# Altium footprint library PcbLib1.PcbLib: 10 footprints
Each footprint in its own frame and in the unit in brackets; x right, y up, seen from the top. Pads: shape width x height; smd on the part's side, far side on the other; paste and mask are expansions set on the pad; w line width, h text height; cw(c..) or ccw(c..) is an arc to the next point about the centre after c.
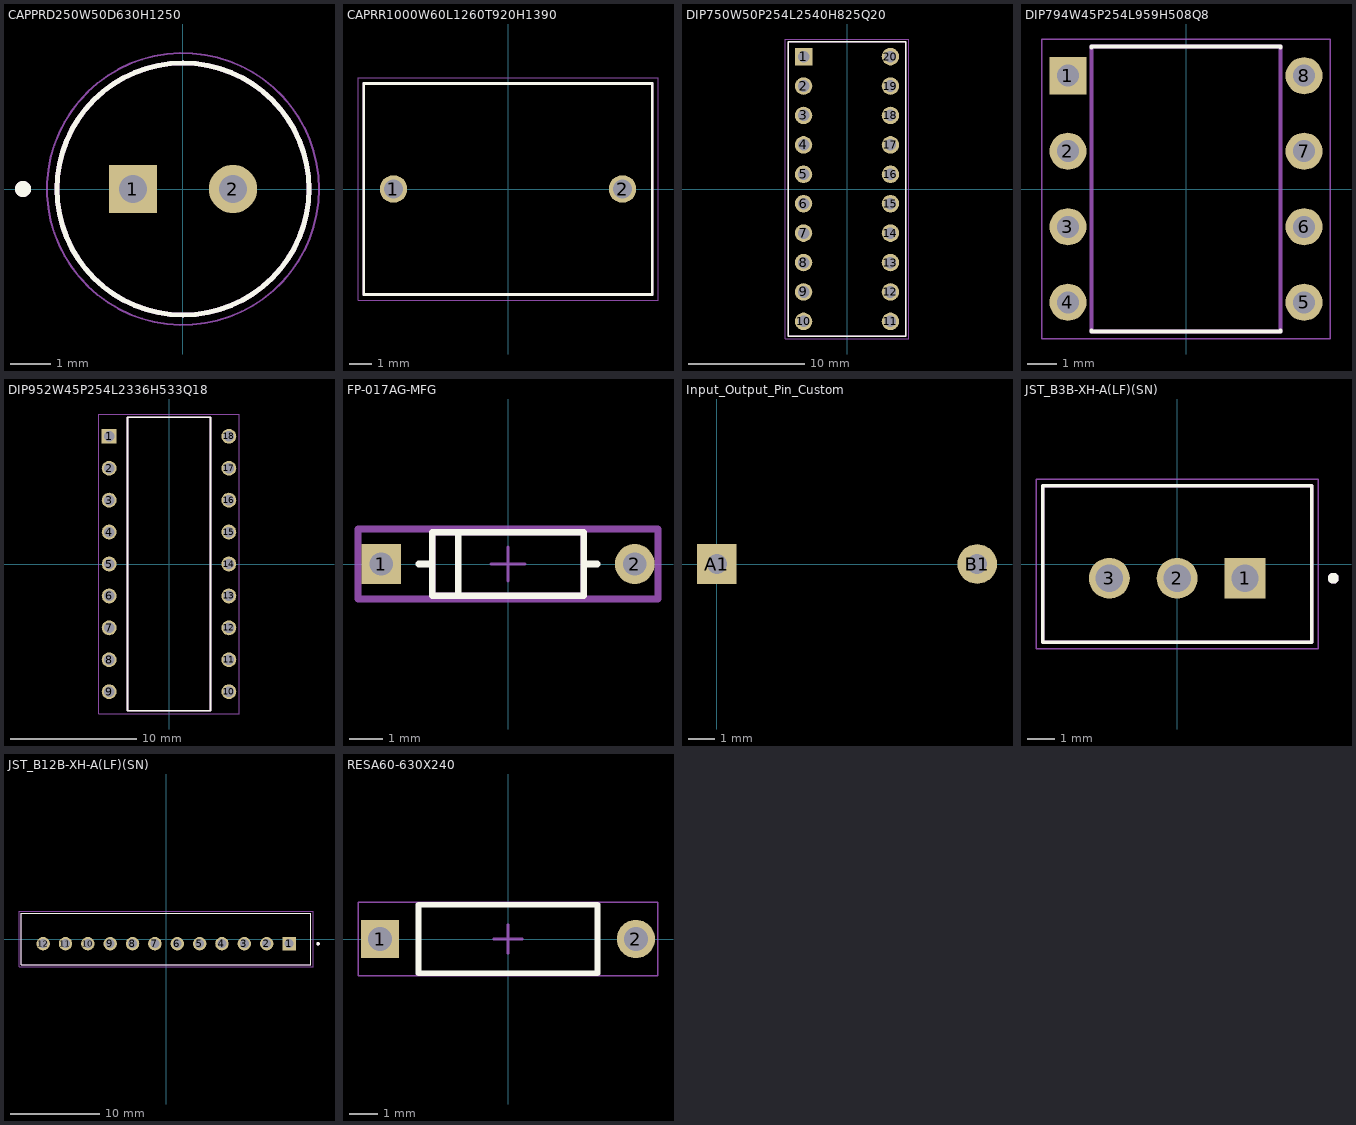
[diagram p0: the footprints below, top view; thin cyan lines are the x and y axes]

## CAPPRD250W50D630H1250 [mm]
pads (2):
  rect 1.208x1.208 / inner round 1.208 / far side rect 1.208x1.208 hole 0.7: 1(-1.25,0)
  round 1.208 hole 0.7: 2(1.25,0)
Top Overlay:
  circle w0.2: c-4,0 r0.1
  circle w0.127: c0,0 r3.15
Top 3D Body:
  circle w0.2: c-4,0 r0.1
  circle w0.127: c0,0 r3.15
Top Courtyard:
  circle w0.05: c0,0 r3.4
3D body "step_temp.STEP": height 12.5, standoff -19, extent -3.15,-3.147 3.15,3.147

## CAPRR1000W60L1260T920H1390 [mm]
pads (2):
  round 1.2 hole 0.85: 1(-5,0) 2(5,0)
Top Overlay:
  lines w0.127: -6.3,-4.6 6.3,-4.6 6.3,4.6 -6.3,4.6 -6.3,-4.6
Top 3D Body:
  lines w0.127: -6.3,-4.6 -6.3,4.6 6.3,4.6 6.3,-4.6 -6.3,-4.6
Top Courtyard:
  lines w0.05: -6.55,-4.85 -6.55,4.85 6.55,4.85 6.55,-4.85 -6.55,-4.85

## DIP750W50P254L2540H825Q20 [mm]
pads (20):
  rect 1.508x1.508 hole 1: 1(-3.75,11.43)
  round 1.508 hole 1: 2(-3.75,8.89) 3(-3.75,6.35) 4(-3.75,3.81) 5(-3.75,1.27) 6(-3.75,-1.27) 7(-3.75,-3.81) 8(-3.75,-6.35) 9(-3.75,-8.89) 10(-3.75,-11.43) 11(3.75,-11.43) 12(3.75,-8.89) 13(3.75,-6.35) 14(3.75,-3.81) 15(3.75,-1.27) 16(3.75,1.27) 17(3.75,3.81) 18(3.75,6.35) 19(3.75,8.89) 20(3.75,11.43)
Top Overlay:
  lines w0.127: -5.08,-12.7 5.08,-12.7 5.08,12.7 -5.08,12.7 -5.08,-12.7
Top 3D Body:
  lines w0.127: -5.08,-12.7 5.08,-12.7 5.08,12.7 -5.08,12.7 -5.08,-12.7
Top Courtyard:
  lines w0.05: -5.33,-12.95 -5.33,12.95 5.33,12.95 5.33,-12.95 -5.33,-12.95

## DIP794W45P254L959H508Q8 [mm]
height 5.08
pads (8):
  rect 1.248x1.248 / inner round 1.248 / far side rect 1.248x1.248 hole 0.74: 1(-3.97,3.81)
  round 1.248 hole 0.74: 2(-3.97,1.27) 3(-3.97,-1.27) 4(-3.97,-3.81) 5(3.97,-3.81) 6(3.97,-1.27) 7(3.97,1.27) 8(3.97,3.81)
Top Overlay:
  lines w0.127: -3.175,-4.754 -3.175,-4.795 3.175,-4.795 3.175,-4.754 ; -3.175,4.754 -3.175,4.795 3.175,4.795 3.175,4.754
Top 3D Body:
  lines w0.127: -3.175,-4.795 3.175,-4.795 3.175,4.795 -3.175,4.795 -3.175,-4.795
Top Courtyard:
  lines w0.05: -4.844,-5.045 -4.844,5.045 4.844,5.045 4.844,-5.045 -4.844,-5.045
3D body "step_temp.STEP": height 5.33, standoff -3.81, extent -5.46,-4.635 5.46,4.635

## DIP952W45P254L2336H533Q18 [mm]
height 5.334
pads (18):
  rect 1.18x1.18 / inner round 1.18 / far side rect 1.18x1.18 hole 0.83: 1(-4.763,10.16)
  round 1.18 hole 0.83: 2(-4.763,7.62) 3(-4.763,5.08) 4(-4.763,2.54) 5(-4.763,0) 6(-4.763,-2.54) 7(-4.763,-5.08) 8(-4.763,-7.62) 9(-4.763,-10.16) 10(4.763,-10.16) 11(4.763,-7.62) 12(4.763,-5.08) 13(4.763,-2.54) 14(4.763,0) 15(4.763,2.54) 16(4.763,5.08) 17(4.763,7.62) 18(4.763,10.16)
Top Overlay:
  lines w0.127: -3.302,-11.684 3.302,-11.684 3.302,11.684 -3.302,11.684 -3.302,-11.684
Top 3D Body:
  lines w0.127: -3.302,-11.684 -3.302,11.684 3.302,11.684 3.302,-11.684 -3.302,-11.684
Top Courtyard:
  lines w0.05: -5.603,-11.934 -5.603,11.934 5.603,11.934 5.603,-11.934 -5.603,-11.934
3D body "step_temp.STEP": height 5.33, standoff -3, extent -4.166,-11.43 4.166,11.43

## FP-017AG-MFG [mm]
pads (2):
  rect 1.2x1.2 hole 0.7 paste-2539.97 mask+0: 1(-3.813,0)
  round 1.2 hole 0.7 paste-2539.97 mask+0: 2(3.813,0)
Top Overlay:
  lines w0.2: -2.68,0 -2.28,0 ; -1.5,-0.855 -1.5,0.855 ; 2.28,0 2.68,0 ; -2.28,-0.955 -2.28,0.955 2.28,0.955 2.28,-0.955 -2.28,-0.955
Top Assembly:
  lines w0.2: -4.513,-1.055 -4.513,1.055 4.513,1.055 4.513,-1.055 -4.513,-1.055
  text ".Designator" at 0.776,0.055 h1
Top 3D Body:
  lines w0.2: -2.28,-0.955 -2.28,0.955 2.28,0.955 2.28,-0.955 -2.28,-0.955
Top Courtyard:
  lines w0.2: -4.513,-1.055 -4.513,1.055 4.513,1.055 4.513,-1.055 -4.513,-1.055
Top Component Center:
  lines w0.1: -0.5,0 0.5,0 ; 0,-0.5 0,0.5
3D body "Diode_ON_Semiconductor_1N914B_eec.STEP": height 0.25, standoff 0, extent -4.513,-1.055 4.513,1.055

## Input_Output_Pin_Custom [mil]
pads (2):
  rect 60x60 hole 30: A1(0,0)
  round 60 hole 30: B1(393.7,0)

## JST_B3B-XH-A(LF)(SN) [mm]
height 7
pads (3):
  rect 1.508x1.508 / inner round 1.508 / far side rect 1.508x1.508 hole 1: 1(2.5,-0.525)
  round 1.508 hole 1: 2(0,-0.525) 3(-2.5,-0.525)
Top Overlay:
  circle w0.2: c5.75,-0.525 r0.1
  lines w0.127: -4.95,-2.875 4.95,-2.875 4.95,2.875 -4.95,2.875 -4.95,-2.875
Top 3D Body:
  circle w0.2: c5.75,-0.525 r0.1
  lines w0.127: -4.95,-2.875 4.95,-2.875 4.95,2.875 -4.95,2.875 -4.95,-2.875
Top Courtyard:
  lines w0.05: -5.2,-3.125 5.2,-3.125 5.2,3.125 -5.2,3.125 -5.2,-3.125
3D body "step_temp.STEP": height 7, standoff -3.4, extent -4.95,-2.875 4.95,2.875

## JST_B12B-XH-A(LF)(SN) [mm]
height 7
pads (12):
  rect 1.508x1.508 / inner round 1.508 / far side rect 1.508x1.508 hole 1: 1(13.75,-0.525)
  round 1.508 hole 1: 2(11.25,-0.525) 3(8.75,-0.525) 4(6.25,-0.525) 5(3.75,-0.525) 6(1.25,-0.525) 7(-1.25,-0.525) 8(-3.75,-0.525) 9(-6.25,-0.525) 10(-8.75,-0.525) 11(-11.25,-0.525) 12(-13.75,-0.525)
Top Overlay:
  circle w0.2: c17,-0.525 r0.1
  lines w0.127: -16.2,-2.875 -16.2,2.875 16.2,2.875 16.2,-2.875 -16.2,-2.875
Top 3D Body:
  circle w0.2: c17,-0.525 r0.1
  lines w0.127: -16.2,-2.875 -16.2,2.875 16.2,2.875 16.2,-2.875 -16.2,-2.875
Top Courtyard:
  lines w0.05: -16.45,-3.125 -16.45,3.125 16.45,3.125 16.45,-3.125 -16.45,-3.125
3D body "step_temp.STEP": height 7, standoff -3.4, extent -16.2,-2.875 16.2,2.875

## RESA60-630X240 [mm] "Axial Resistor, 2-Leads, Dia 2.4mm, Body Length 6.3mm"
height 2.6
pads (2):
  rect 1.35x1.35 hole 0.85: 1(-4.5,0)
  round 1.35 hole 0.85: 2(4.5,0)
Top Overlay:
  lines w0.2: -3.15,-1.2 3.15,-1.2 3.15,1.2 -3.15,1.2 -3.15,-1.2
Top 3D Body:
  lines w0.1: -3.15,-1.2 -3.15,1.2 3.15,1.2 3.15,-1.2 -3.15,-1.2
Top Courtyard:
  lines w0.05: -5.275,-1.3 5.275,-1.3 5.275,1.3 -5.275,1.3 -5.275,-1.3
  lines w0.1: -0.5,0 0.5,0 ; 0,-0.5 0,0.5
3D body: height 2.4, standoff 0, extent -3.15,-1.2 3.15,1.2